# Altium footprint library MB1312.PcbLib: 50 footprints (part 4 of 4)
Each footprint in its own frame and in the unit in brackets; x right, y up, seen from the top. Pads: shape width x height; smd on the part's side, far side on the other; paste and mask are expansions set on the pad; w line width, h text height; cw(c..) or ccw(c..) is an arc to the next point about the centre after c.
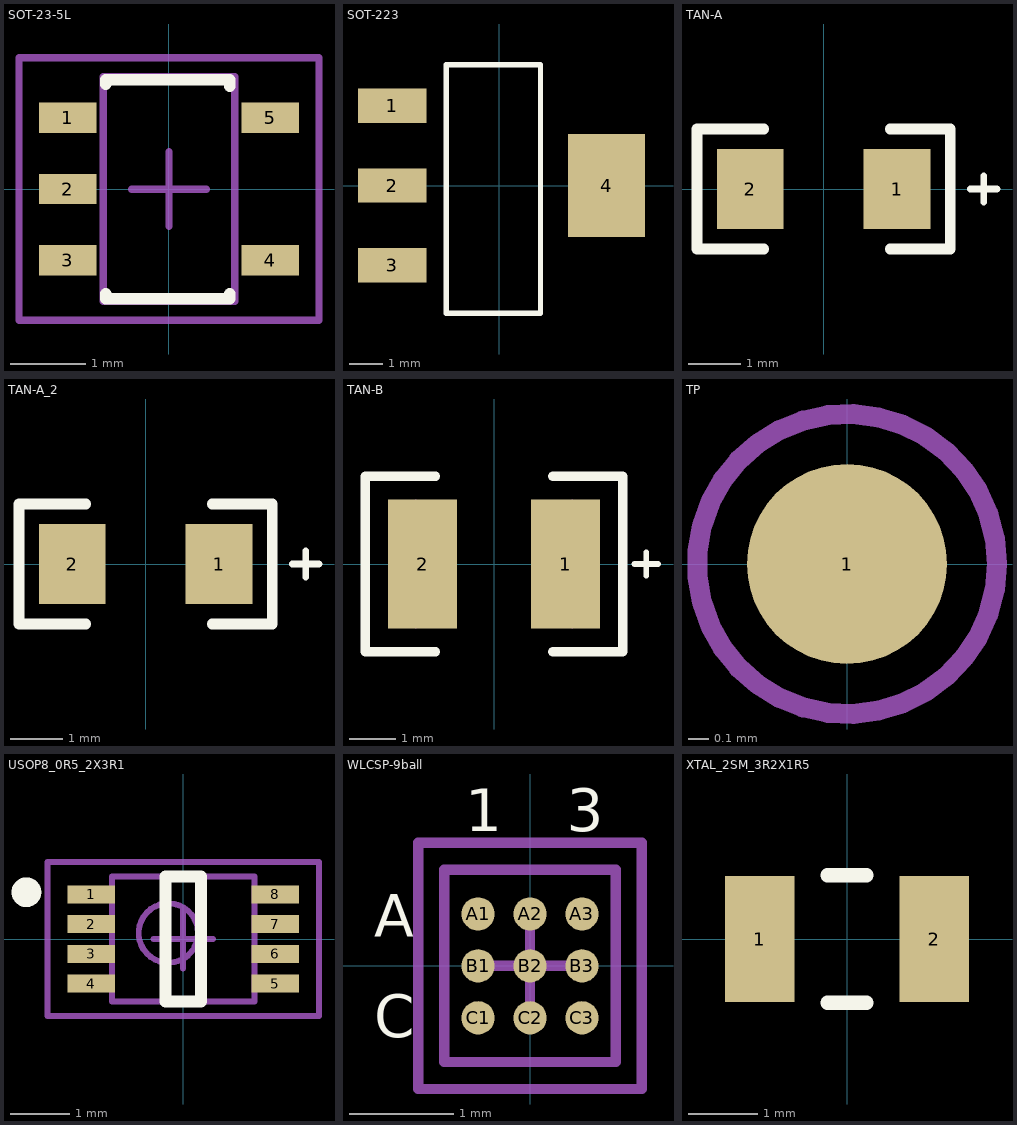
[diagram p3: the footprints below, top view; thin cyan lines are the x and y axes]

## SOT-23-5L [mil] "Enhanced single channel power switches"
height 57.09
pads (5):
  rect 30x16 smd: 1(-53.15,37.4) 2(-53.15,0) 3(-53.15,-37.4) 4(53.15,-37.4) 5(53.15,37.4)
Top Overlay:
  lines w6: -33.15,-55 -33.15,-57.6 31.85,-57.6 31.85,-55 ; -33.15,55 -33.15,57.4 31.85,57.4 31.85,54
Mechanical 13:
  lines w3.94: -34.45,-59.06 34.45,-59.06 34.45,59.06 -34.45,59.06 -34.45,-59.06
Mechanical 15:
  lines w3.94: -19.68,0 19.69,0 ; 0,-19.68 0,19.69 ; -78.74,-68.9 78.74,-68.9 78.74,68.9 -78.74,68.9 -78.74,-68.9
3D body: height 57.09, standoff 1.97, extent -34.45,-59.06 34.45,59.06

## SOT-223 [mil] "Adjustable and fixed low drop positive voltage regulator"
height 70.87
pads (4):
  rect 80x40 smd: 1(-125,93) 2(-125,0) 3(-125,-93)
  rect 90x120 smd: 4(125,0)
Top Overlay:
  lines w6: -62,-149 48,-149 48,141 -62,141 -62,-149
3D body: height 70.87, standoff 7.87, extent -83.66,-131.89 62.01,131.89

## TAN-A [mil] "TAN Capacitor"
height 39.37
pads (2):
  rect 50x60 smd: 1(55,0) 2(-55,0)
Top Overlay:
  lines w5: 110,0 130,0 ; 120,-10 120,10
  lines w8: -45,-45 -95,-45 -95,45 -45,45 ; 50,-45 95,-45 95,45 50,45
3D body: height 39.37, standoff 0, extent -47.24,-35.43 47.24,35.43

## TAN-A_2 [mil]
pads (2):
  rect 50x60 smd: 1(55,0) 2(-55,0)
Top Overlay:
  lines w5: 110,0 130,0 ; 120,-10 120,10
  lines w8: -45,-45 -95,-45 -95,45 -45,45 ; 50,-45 95,-45 95,45 50,45
3D body: height 39.37, standoff 0, extent -47.24,-35.43 47.24,35.43

## TAN-B [mm] "Tan Capacitor"
height 1
pads (2):
  rect 1.5x2.8 smd: 1(1.55,0) 2(-1.55,0)
Top Overlay:
  lines w0.127: 3.048,0 3.556,0 ; 3.302,-0.254 3.302,0.254
  lines w0.203: -1.27,-1.905 -2.794,-1.905 -2.794,1.905 -1.27,1.905 ; 1.27,-1.905 2.794,-1.905 2.794,1.905 1.27,1.905
Mechanical 13:
  lines w0.1: -1.7,-1.35 -1.7,1.35 ; 1.7,-1.35 1.7,1.35
3D body: height 1, standoff 0, extent -1.763,-1.537 1.704,1.539

## TP [mm] "Testpoint, Surface Mounting, Circular, Pad Diameter 1mm"
height 1
pads (1):
  round 1 smd: 1(0,0)
Mechanical 15:
  circle w0.1: c0,0 r0.75

## USOP8_0R5_2X3R1 [mm]
pads (8):
  rect 0.8x0.3 smd: 1(-1.55,0.75) 2(-1.55,0.25) 3(-1.55,-0.25) 4(-1.55,-0.75) 5(1.55,-0.75) 6(1.55,-0.25) 7(1.55,0.25) 8(1.55,0.75)
Top Overlay:
  circle w0.25: c-2.64,0.787 r0.125
  lines w0.2: -0.3,-1.05 -0.3,1.05 0.3,1.05 0.3,-1.05 -0.3,-1.05
Mechanical 13:
  circle w0.1: c-0.25,0.1 r0.5
  lines w0.1: -1.2,-1.05 -1.2,1.05 1.2,1.05 1.2,-1.05 -1.2,-1.05
Mechanical 15:
  lines w0.1: -0.5,0 0.5,0 ; 0,-0.5 0,0.5 ; -2.286,-1.3 -2.286,1.3 2.286,1.3 2.286,-1.3 -2.286,-1.3
3D body: height 0.9, standoff 0.1, extent -1.2,-1.05 1.2,1.05

## WLCSP-9ball [mm]
pads (9):
  round 0.32 smd: A1(-0.5,0.5) A2(0,0.5) A3(0.5,0.5) B1(-0.5,0) B2(0,0) B3(0.5,0) C1(-0.5,-0.5) C2(0,-0.5) C3(0.5,-0.5)
Top Overlay:
  text "1" at -0.625,1.295 h0.41
  text "3" at 0.356,1.295 h0.41
  text "C" at -1.499,-0.686 h0.41
  text "A" at -1.499,0.279 h0.41
Mechanical 13:
  lines w0.1: -0.825,-0.925 0.825,-0.925 0.825,0.925 -0.825,0.925 -0.825,-0.925
Mechanical 15:
  lines w0.1: -0.5,0 0.5,0 ; 0,-0.5 0,0.5 ; -1.075,-1.185 1.075,-1.185 1.075,1.185 -1.075,1.185 -1.075,-1.185
3D body: height 0.6, standoff 0.24, extent -0.825,-0.925 0.825,0.925

## XTAL_2SM_3R2X1R5 [mm] "CRYSTAL 32.768KHZ 6PF SMD 2 pads"
height 1.1
pads (2):
  rect 1x1.8 smd: 1(-1.25,0) 2(1.25,0)
Top Overlay:
  lines w0.203: -0.279,-0.914 0.279,-0.914 ; -0.279,0.914 0.279,0.914
3D body "ABS07-120.STEP": height 0.89, standoff 0, extent -1.628,-0.752 1.577,0.752